# Altium footprint library 4-794619-2.PcbLib: 1 footprints
Each footprint in its own frame and in the unit in brackets; x right, y up, seen from the top. Pads: shape width x height; smd on the part's side, far side on the other; paste and mask are expansions set on the pad; w line width, h text height; cw(c..) or ccw(c..) is an arc to the next point about the centre after c.
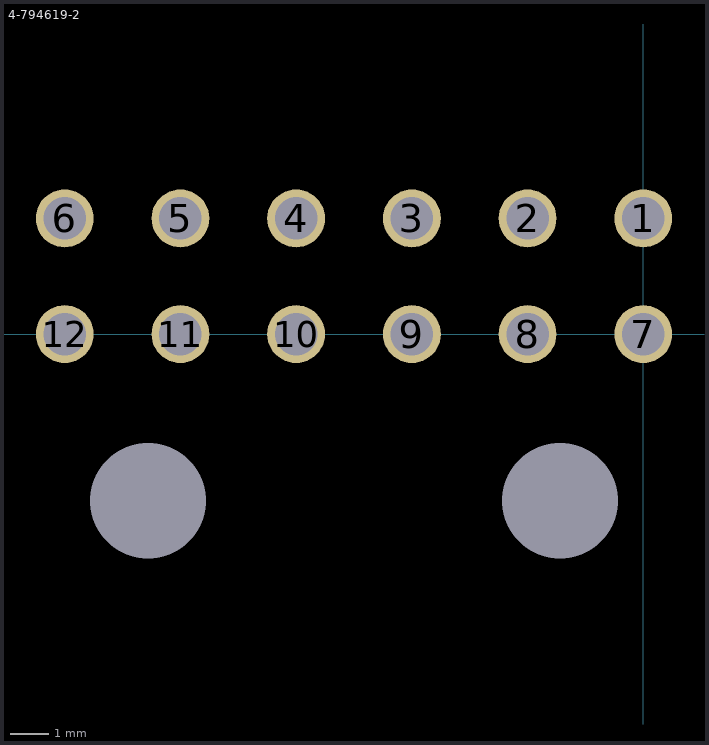
[diagram p0: the footprint, top view; thin cyan lines are the x and y axes]

## 4-794619-2 [mm] "12 pin te"
pads (14):
  round 1.5 hole 1.1: 1(0,3) 2(-3,3) 3(-6,3) 4(-9,3) 5(-12,3) 6(-15,3) 7(0,0) 8(-3,0) 9(-6,0) 10(-9,0) 11(-12,0) 12(-15,0)
  round 0 hole 3: ""(-12.84,-4.32) ""(-2.16,-4.32)